# Altium footprint library RR01J15KTB.PcbLib: 1 footprints
Each footprint in its own frame and in the unit in brackets; x right, y up, seen from the top. Pads: shape width x height; smd on the part's side, far side on the other; paste and mask are expansions set on the pad; w line width, h text height; cw(c..) or ccw(c..) is an arc to the next point about the centre after c.
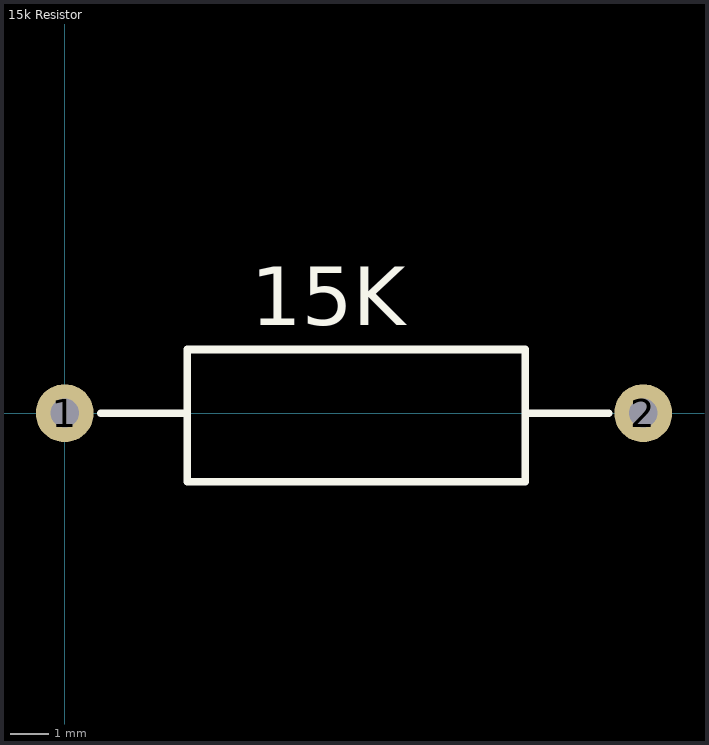
[diagram p0: the footprint, top view; thin cyan lines are the x and y axes]

## 15k Resistor [mm]
pads (2):
  round 1.5 hole 0.75: 1(0,0) 2(15,0)
Top Overlay:
  lines w0.2: 0.934,0 3.175,0 ; 11.938,0 14.097,0 ; 3.175,-1.778 11.938,-1.778 11.938,1.651 3.175,1.651 3.175,-1.778
  text "15K" at 4.826,2.286 h1.52